# Altium footprint library led_2835_curve_45X45cm.PcbLib: 2 footprints
Each footprint in its own frame and in the unit in brackets; x right, y up, seen from the top. Pads: shape width x height; smd on the part's side, far side on the other; paste and mask are expansions set on the pad; w line width, h text height; cw(c..) or ccw(c..) is an arc to the next point about the centre after c.
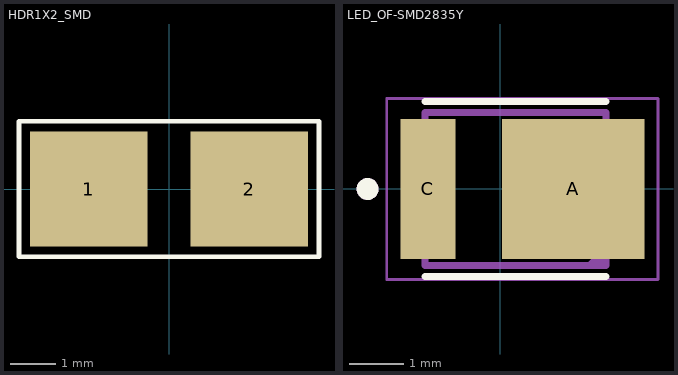
[diagram p0: the footprints below, top view; thin cyan lines are the x and y axes]

## HDR1X2_SMD [mm] "Connector; Header; 2 Position"
pads (2):
  rect 2.6x2.55 smd: 1(-1.778,0) 2(1.778,0)
Top Overlay:
  lines w0.1: -3.325,-1.5 3.325,-1.5 3.325,1.5 -3.325,1.5 -3.325,-1.5

## LED_OF-SMD2835Y [mm]
pads (2):
  rect 2.6x2.55 smd: A(1.325,0)
  rect 1x2.55 smd: C(-1.325,0)
Top Overlay:
  lines w0.127: -1.375,-1.595 1.925,-1.595 ; -1.375,1.595 1.925,1.595
  lines w0.2: -2.429,0.1 ccw(c-2.425,0) -2.429,0.1
Mechanical 13:
  lines w0.127: 1.625,-1.4 1.925,-1.1 ; 1.625,-1.4 -1.375,-1.4 -1.375,1.4 1.925,1.4 1.925,-1.1 ; 1.625,-1.4 1.725,-1.4 ; 1.725,-1.4 1.925,-1.2 ; 1.725,-1.4 1.925,-1.4 1.925,-1.2 ; 1.925,-1.2 1.925,-1.1
  lines w0.2: -2.429,0.1 ccw(c-2.425,0) -2.429,0.1
Mechanical 15:
  lines w0.05: 2.85,-1.65 -2.075,-1.65 -2.075,1.65 2.85,1.65 ; 2.875,-1.65 2.875,1.65